# EAGLE library part MAX5541 (library maxim-ic)
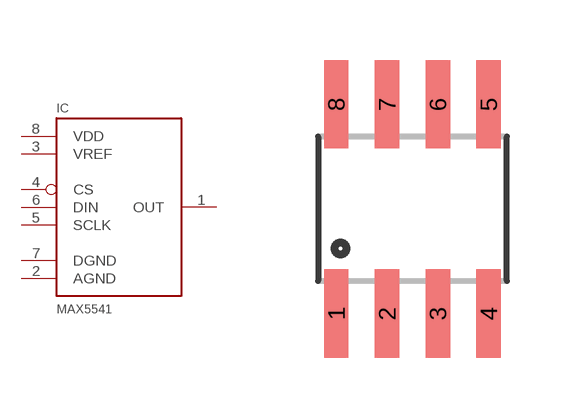
[diagram p0: symbol with the pads of SO08; footprint SO08]

Designator prefix IC

## MAX5541  [SO08]
1  OUT  out
2  AGND  pwr
3  VREF  pwr
4  CS  in
5  SCLK  in
6  DIN  in
7  DGND  pwr
8  VDD  pwr

## Footprint SO08 (pad centres in mm)
Small Outline Package Fits JEDEC packages (narrow SOIC-8)
smd 0.61 x 2.21: 1 -1.905,-2.616; 2 -0.635,-2.616; 3 0.635,-2.616; 4 1.905,-2.616; 5 1.905,2.616; 6 0.635,2.616; 7 -0.635,2.616; 8 -1.905,2.616